# EAGLE library part 418217270910 (library EAGLE-TACT_SWITCHES-rev16e)
WS-RA 2.54 mm right angled compact THT Dip Switch with raised actuator, 10 Pole
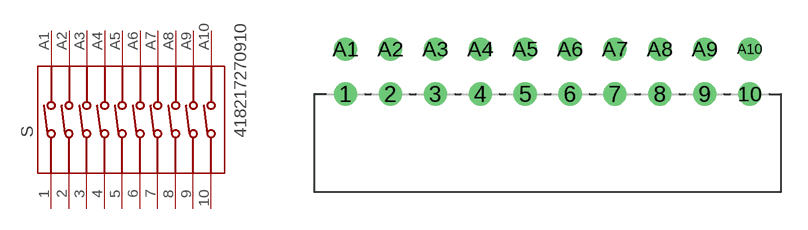
[diagram p54: symbol with the pads of 418217270910; footprint 418217270910]

Designator prefix S

## 418217270910  [418217270910]
1  1  pas
2  2  pas
3  3  pas
4  4  pas
5  5  pas
6  6  pas
7  7  pas
8  8  pas
9  9  pas
10  10  pas
A1  20  pas
A2  19  pas
A3  18  pas
A4  17  pas
A5  16  pas
A6  15  pas
A7  14  pas
A8  13  pas
A9  12  pas
A10  11  pas

## Footprint 418217270910 (pad centres in mm)
WS-RA 2.54 mm right angled compact THT Dip Switch with raised actuator, 10 Pole
drill 0.8: 1 -11.43,-1.27; 2 -8.89,-1.27; 3 -6.35,-1.27; 4 -3.81,-1.27; 5 -1.27,-1.27; 6 1.27,-1.27; 7 3.81,-1.27; 8 6.35,-1.27; 9 8.89,-1.27; 10 11.43,-1.27; A1 -11.43,1.27; A2 -8.89,1.27; A3 -6.35,1.27; A4 -3.81,1.27; A5 -1.27,1.27; A6 1.27,1.27; A7 3.81,1.27; A8 6.35,1.27; A9 8.89,1.27; A10 11.43,1.27